# Altium schematic symbol library VREF1.SchLib: 2 symbols
Pins are listed as number, name and electrical type; pins without a type are passive.

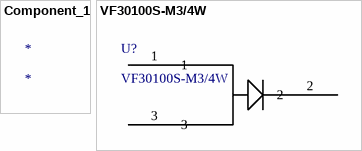
[diagram p0: symbols Component_1 to VF30100S-M3/4W]

## Component_1
designator *

## VF30100S-M3/4W
designator U?
No Description Available; Mfr_Name: Vishay; Copyright: Copyright (C) 2021 Ultra Librarian. All rights reserved.; Manufacturer_Part_Number: VF30100S-M3/4W; RefDes: RefDes; Type: DEV
footprint TO_0S-M3/4W_VIS
footprint Model Name (Footprint not found)
pins: 1, 2, 3